# Altium schematic symbol library BC547A.SchLib: 1 symbol
Pins are listed as number, name and electrical type; pins without a type are passive.

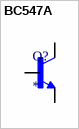
[diagram p0: symbol BC547A]

## BC547A
designator Q?
Transistor NPN BC547A PHILIPS miliampere=100 TO92; MF: {'manufacturer': u'ON Semiconductor'}; Availability: Unavailable; MP: BC547A; Value: *; Price: None; Package: None
footprint TO92260P520H877-3
pins: 1 C, 2 B, 3 E